# EAGLE library part XUF208-256-TQ64 (library xmos)
Multicore Microcontroller with Advanced Multi-Core RISC Architecture https://www.xmos.com/download/private/XUF208-256-TQ64-Datasheet%281.10%29.pdf
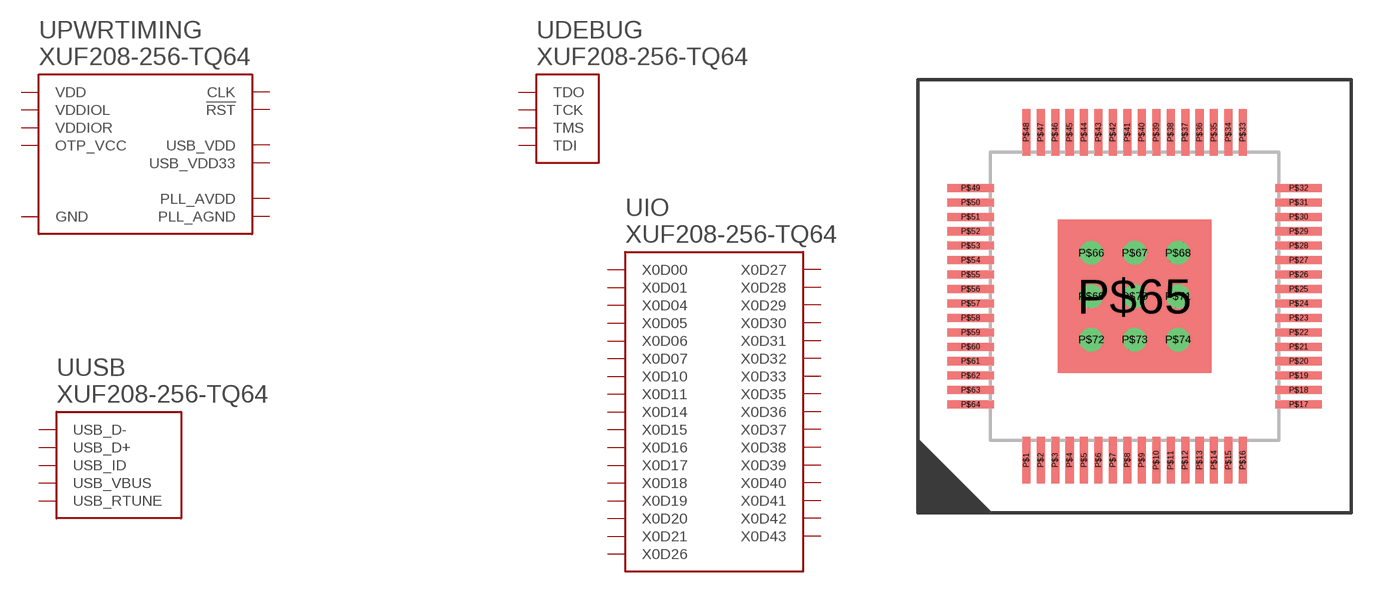
[diagram p0: symbol with the pads of TQFP-64-EXPOSED-PAD; footprint TQFP-64-EXPOSED-PAD]

Designator prefix U; gates PWRTIMING=XUF208-PWRTIMING DEBUG=XUF208-DEBUG USB=XUF208-USB IO=XUF208-IO

## XUF208-256-TQ64  [TQFP-64-EXPOSED-PAD]
P$1  IO:X0D36
P$2  IO:X0D38
P$3  PWRTIMING:VDDIOL
P$4  IO:X0D39
P$5  IO:X0D40
P$6  IO:X0D41
P$7  IO:X0D42
P$8  IO:X0D43
P$9  PWRTIMING:VDD
P$10  PWRTIMING:VDD
P$11  IO:X0D01
P$12  IO:X0D10
P$13  PWRTIMING:VDDIOL
P$14  IO:X0D00
P$15  IO:X0D04
P$16  IO:X0D11
P$17  IO:X0D05
P$18  IO:X0D06
P$19  IO:X0D07
P$20  PWRTIMING:VDD
P$21  USB:USB_ID
P$22  PWRTIMING:USB_VDD33
P$23  USB:USB_VBUS
P$24  USB:USB_RTUNE
P$25  USB:USB_D+
P$26  USB:USB_D-
P$27  PWRTIMING:USB_VDD
P$28  IO:X0D14
P$29  IO:X0D15
P$30  IO:X0D20
P$31  PWRTIMING:VDD
P$32  IO:X0D21
P$34  PWRTIMING:VDDIOR
P$35  IO:X0D16
P$36  IO:X0D17
P$37  IO:X0D18
P$38  IO:X0D19
P$39  PWRTIMING:VDD
P$40  PWRTIMING:VDD
P$41  PWRTIMING:VDD
P$42  IO:X0D35
P$43  IO:X0D26
P$44  PWRTIMING:VDDIOR
P$45  IO:X0D27
P$46  IO:X0D32
P$47  IO:X0D28
P$48  IO:X0D33
P$49  IO:X0D29
P$50  IO:X0D30
P$51  IO:X0D31
P$52  PWRTIMING:VDD
P$53  PWRTIMING:PLL_AVDD
P$54  PWRTIMING:PLL_AGND
P$55  PWRTIMING:OTP_VCC
P$56  PWRTIMING:VDD
P$57  PWRTIMING:!RST
P$58  PWRTIMING:CLK
P$59  PWRTIMING:VDD
P$60  DEBUG:TMS
P$61  DEBUG:TCK
P$62  DEBUG:TDI
P$63  DEBUG:TDO
P$64  IO:X0D37
P$65  PWRTIMING:GND
P$66  PWRTIMING:GND
P$67  PWRTIMING:GND
P$68  PWRTIMING:GND
P$69  PWRTIMING:GND
P$70  PWRTIMING:GND
P$71  PWRTIMING:GND
P$72  PWRTIMING:GND
P$73  PWRTIMING:GND
P$74  PWRTIMING:GND

## Footprint TQFP-64-EXPOSED-PAD (pad centres in mm)
smd 0.28 x 1.6: P$1 -3.75,-5.68; P$2 -3.25,-5.68; P$3 -2.75,-5.68; P$4 -2.25,-5.68; P$5 -1.75,-5.68; P$6 -1.25,-5.68; P$7 -0.75,-5.68; P$8 -0.25,-5.68; P$9 0.25,-5.68; P$10 0.75,-5.68; P$11 1.25,-5.68; P$12 1.75,-5.68; P$13 2.25,-5.68; P$14 2.75,-5.68; P$15 3.25,-5.68; P$16 3.75,-5.68; P$33 3.75,5.68; P$34 3.25,5.68; P$35 2.75,5.68; P$36 2.25,5.68; P$37 1.75,5.68; P$38 1.25,5.68; P$39 0.75,5.68; P$40 0.25,5.68; P$41 -0.25,5.68; P$42 -0.75,5.68; P$43 -1.25,5.68; P$44 -1.75,5.68; P$45 -2.25,5.68; P$46 -2.75,5.68; P$47 -3.25,5.68; P$48 -3.75,5.68
smd 1.6 x 0.28: P$17 5.68,-3.75; P$18 5.68,-3.25; P$19 5.68,-2.75; P$20 5.68,-2.25; P$21 5.68,-1.75; P$22 5.68,-1.25; P$23 5.68,-0.75; P$24 5.68,-0.25; P$25 5.68,0.25; P$26 5.68,0.75; P$27 5.68,1.25; P$28 5.68,1.75; P$29 5.68,2.25; P$30 5.68,2.75; P$31 5.68,3.25; P$32 5.68,3.75; P$49 -5.68,3.75; P$50 -5.68,3.25; P$51 -5.68,2.75; P$52 -5.68,2.25; P$53 -5.68,1.75; P$54 -5.68,1.25; P$55 -5.68,0.75; P$56 -5.68,0.25; P$57 -5.68,-0.25; P$58 -5.68,-0.75; P$59 -5.68,-1.25; P$60 -5.68,-1.75; P$61 -5.68,-2.25; P$62 -5.68,-2.75; P$63 -5.68,-3.25; P$64 -5.68,-3.75
smd 5.31 x 5.31: P$65 0,0
drill 0.305 pad 0.61: P$66 -1.5,1.5; P$67 0,1.5; P$68 1.5,1.5; P$69 -1.5,0; P$70 0,0; P$71 1.5,0; P$72 -1.5,-1.5; P$73 0,-1.5; P$74 1.5,-1.5